# EAGLE library part MSP430G2452IRSA16R (library Microcontroller)
IC MCU 16BIT 8KB FLASH 16QFN Manufacturer's datasheet <https://www.ti.com/lit/ds/symlink/msp430g2112.pdf?HQS=dis-dk-null-digikeymode-dsf-pf-null-wwe&ts=1626333961610&ref_url=https%253A%252F%252Fwww.digikey.in%252F>
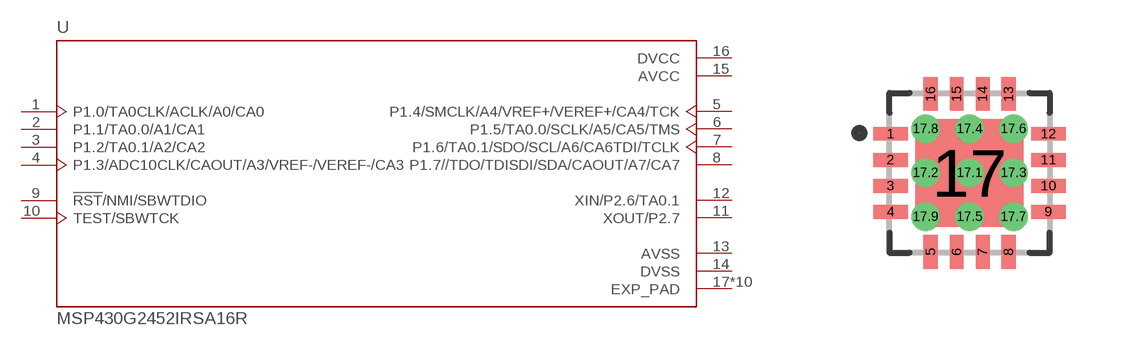
[diagram p36: symbol with the pads of QFN16; footprint QFN16]

Designator prefix U

## MSP430G2452IRSA16R (CREATED_BY: PCBLayout.com; DIGIKEY_PARTNO: 296-28129-6-ND; MANUFACTURER: Texas Instruments; MPN: MSP430G2452IRSA16R; PACKAGE: QFN16)  [QFN16]
1  P1.0/TA0CLK/ACLK/A0/CA0
2  P1.1/TA0.0/A1/CA1
3  P1.2/TA0.1/A2/CA2
4  P1.3/ADC10CLK/CAOUT/A3/VREF-/VEREF-/CA3
5  P1.4/SMCLK/A4/VREF+/VEREF+/CA4/TCK
6  P1.5/TA0.0/SCLK/A5/CA5/TMS
7  P1.6/TA0.1/SDO/SCL/A6/CA6TDI/TCLK
8  P1.7//TDO/TDISDI/SDA/CAOUT/A7/CA7
9  !RST!/NMI/SBWTDIO  in
10  TEST/SBWTCK  in
11  XOUT/P2.7
12  XIN/P2.6/TA0.1
13  AVSS  pwr
14  DVSS  pwr
15  AVCC  pwr
16  DVCC  pwr
17  EXP_PAD  pwr
17.1  EXP_PAD  pwr
17.2  EXP_PAD  pwr
17.3  EXP_PAD  pwr
17.4  EXP_PAD  pwr
17.5  EXP_PAD  pwr
17.6  EXP_PAD  pwr
17.7  EXP_PAD  pwr
17.8  EXP_PAD  pwr
17.9  EXP_PAD  pwr

## Footprint QFN16 (pad centres in mm)
smd 0.85 x 0.35: 1 -1.975,0.975; 2 -1.975,0.325; 3 -1.975,-0.325; 4 -1.975,-0.975; 9 1.975,-0.975; 10 1.975,-0.325; 11 1.975,0.325; 12 1.975,0.975
smd 0.35 x 0.85: 5 -0.975,-1.975; 6 -0.325,-1.975; 7 0.325,-1.975; 8 0.975,-1.975; 13 0.975,1.975; 14 0.325,1.975; 15 -0.325,1.975; 16 -0.975,1.975
smd 2.7 x 2.7: 17 0,0
drill 0.2 pad 0.35: 17.1 0,0; 17.2 -1.1,0; 17.3 1.1,0; 17.4 0,1.1; 17.5 0,-1.1; 17.6 1.1,1.1; 17.7 1.1,-1.1; 17.8 -1.1,1.1; 17.9 -1.1,-1.1